# Altium footprint library TE_5-102570-3.PcbLib: 1 footprints
Each footprint in its own frame and in the unit in brackets; x right, y up, seen from the top. Pads: shape width x height; smd on the part's side, far side on the other; paste and mask are expansions set on the pad; w line width, h text height; cw(c..) or ccw(c..) is an arc to the next point about the centre after c.
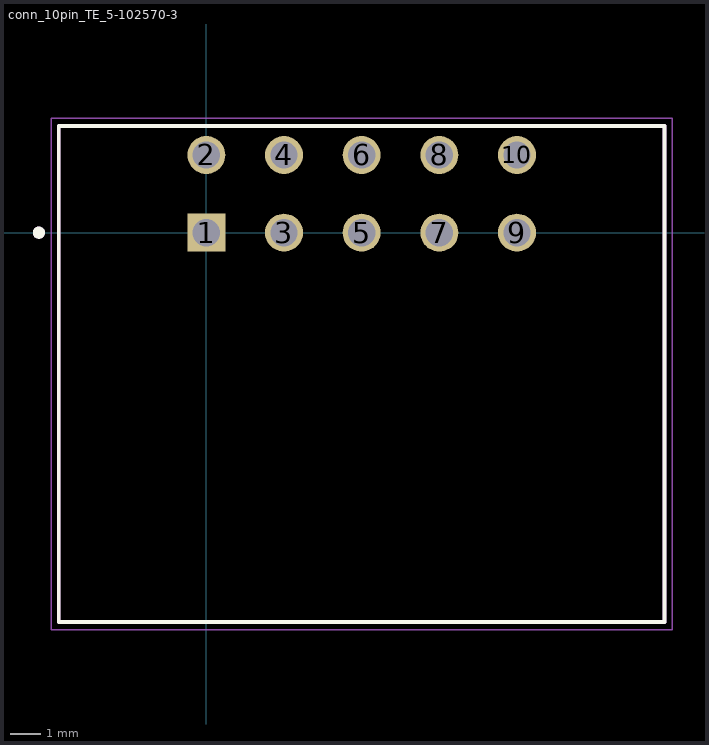
[diagram p0: the footprint, top view; thin cyan lines are the x and y axes]

## conn_10pin_TE_5-102570-3 [mm]
pads (10):
  rect 1.24x1.24 hole 0.89: 1(0,0)
  round 1.24 hole 0.89: 2(0,2.54) 3(2.54,0) 4(2.54,2.54) 5(5.08,0) 6(5.08,2.54) 7(7.62,0) 8(7.62,2.54) 9(10.16,0) 10(10.16,2.54)
Top Overlay:
  circle w0.2: c-5.476,0 r0.1
  lines w0.127: -4.826,-12.738 -4.826,3.493 14.986,3.493 14.986,-12.738 -4.826,-12.738
Mechanical 13:
  circle w0.2: c-5.476,0 r0.1
  lines w0.127: -4.826,-12.738 -4.826,3.493 14.986,3.493 14.986,-12.738 ; -4.826,-12.738 14.986,-12.738 ; -4.826,-12.738 14.986,-12.738
Mechanical 15:
  lines w0.05: -5.076,-12.988 -5.076,3.743 15.236,3.743 15.236,-12.988 -5.076,-12.988
3D body "TE_5-102570-3.STEP": height 11.08, standoff -2.83, extent -4.856,-12.881 14.956,3.35